# Altium schematic symbol library sch_butt.SchLib: 1 symbol
Pins are listed as number, name and electrical type; pins without a type are passive.

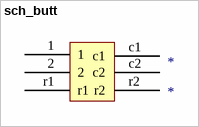
[diagram p0: symbol sch_butt]

## sch_butt
designator *
footprint `pcb_butt
footprint `pcb_butt
footprint `pcb_butt
pins: 1, 2, c1, c2, r1, r2